# EAGLE library part PCF2129A (library 0_jc-custom-eagle6)
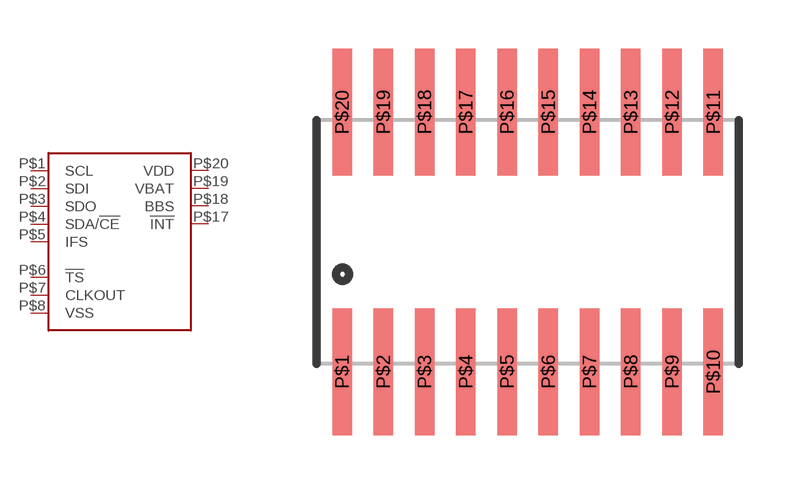
[diagram p3: symbol with the pads of SO20W; footprint SO20W]

Designator prefix -

## PCF2129ASO20  [SO20W]
P$1  SCL
P$2  SDI
P$3  SDO
P$4  SDA/!CE
P$5  IFS
P$6  !TS
P$7  CLKOUT
P$8  VSS
P$17  !INT
P$18  BBS
P$19  VBAT
P$20  VDD

## Footprint SO20W (pad centres in mm)
smd 0.6 x 3.9: P$1 -5.715,-4; P$2 -4.445,-4; P$3 -3.175,-4; P$4 -1.905,-4; P$5 -0.635,-4; P$6 0.635,-4; P$7 1.905,-4; P$8 3.175,-4; P$9 4.445,-4; P$10 5.715,-4; P$11 5.715,4; P$12 4.445,4; P$13 3.175,4; P$14 1.905,4; P$15 0.635,4; P$16 -0.635,4; P$17 -1.905,4; P$18 -3.175,4; P$19 -4.445,4; P$20 -5.715,4